# Altium schematic symbol library Breakout Pin 0603.SchLib: 1 symbol
Pins are listed as number, name and electrical type; pins without a type are passive.

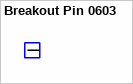
[diagram p0: symbol Breakout Pin 0603]

## Breakout Pin 0603
designator *  (value not drawn)
0603 breakout pad
footprint BreakoutPin 0603 (Exposed 0603 pad for IC breakouts)
pins: 1 BRKOUT